# EAGLE library part 10-84-4120 (library 10-84-4120)
Pin & Socket Connectors HEADER VERT MALE 12P Source: Datasheet <https://componentsearchengine.com/Datasheets/1/10-84-4120.pdf>
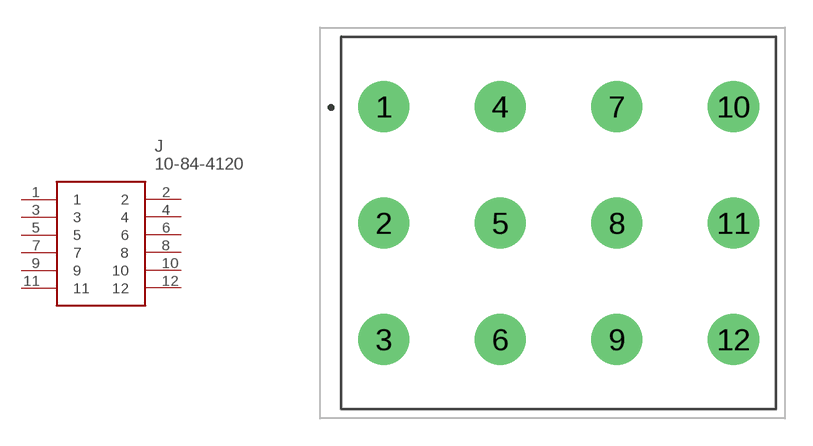
[diagram p0: symbol with the pads of 10844120; footprint 10844120]

Designator prefix J

## 10-84-4120 (Description: Pin & Socket Connectors HEADER VERT MALE 12P; Height: 13.97mm; Manufacturer_Name: Molex; Manufacturer_Part_Number: 10-84-4120; Mouser_Part_Number: 538-10-84-4120; Mouser_Price-Stock: https://www.mouser.com/Search/Refine.aspx?Keyword=538-10-84-4120)  [10844120]
1  1
2  2
3  3
4  4
5  5
6  6
7  7
8  8
9  9
10  10
11  11
12  12

## Footprint 10844120 (pad centres in mm)
10-84-4120-2
drill 1.86 pad 2.79: 1 0,0; 2 0,-6.35; 3 0,-12.7; 4 6.35,0; 5 6.35,-6.35; 6 6.35,-12.7; 7 12.7,0; 8 12.7,-6.35; 9 12.7,-12.7; 10 19.05,0; 11 19.05,-6.35; 12 19.05,-12.7